# Altium schematic symbol library SchLib.SchLib: 2 symbols
Pins are listed as number, name and electrical type; pins without a type are passive.

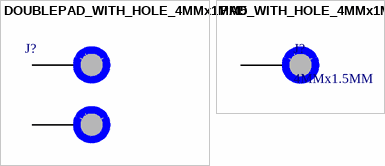
[diagram p0: symbols DOUBLEPAD_WITH_HOLE_4MMx1MM5 to PAD_WITH_HOLE_4MMx1MM5]

## DOUBLEPAD_WITH_HOLE_4MMx1MM5
designator J?, comment Doublepad  (value not drawn)
footprint DOUBLEPAD_WITH_HOLE_4MMx1MM5
pins: 1, 2

## PAD_WITH_HOLE_4MMx1MM5
designator J?, comment 4MMx1.5MM
Pad with a hole 4mm x 1.5mm
footprint PAD_WITH_HOLE_4MMx1MM5
pins: 1